# Altium footprint library Inductor_SMD.PcbLib: 1 footprints
Each footprint in its own frame and in the unit in brackets; x right, y up, seen from the top. Pads: shape width x height; smd on the part's side, far side on the other; paste and mask are expansions set on the pad; w line width, h text height; cw(c..) or ccw(c..) is an arc to the next point about the centre after c.
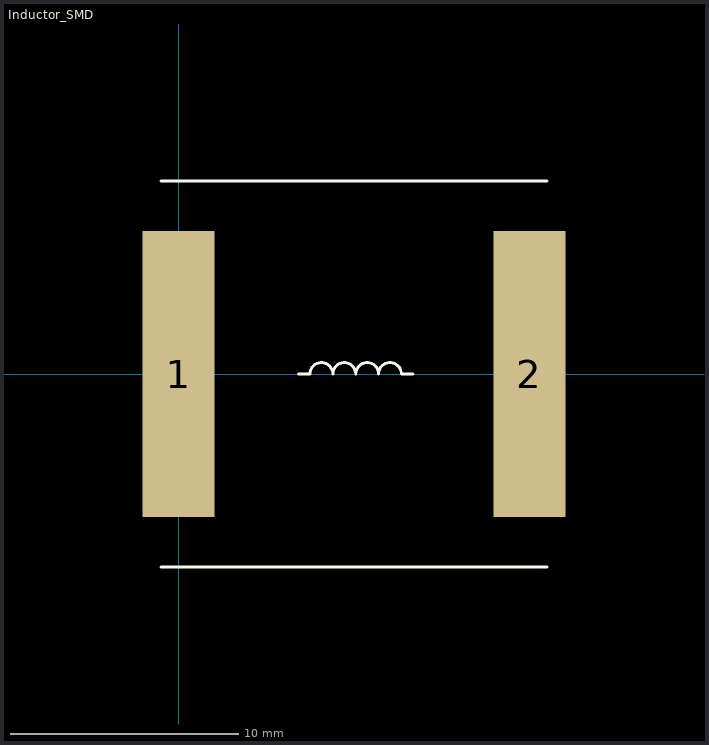
[diagram p0: the footprint, top view; thin cyan lines are the x and y axes]

## Inductor_SMD [mm]
pads (2):
  rect 3.15x12.5 smd: 1(0,0) 2(15.35,0)
Top Overlay:
  lines w0.127: -0.775,-8.45 16.125,-8.45 ; -0.775,8.45 16.125,8.45 ; 5.25,0 5.75,0 cw(c6.25,0) 6.75,0 cw(c7.25,0) 7.75,0 cw(c8.25,0) 8.75,0 cw(c9.25,0) 9.75,0 10.25,0